# EAGLE library part MCP6402 (library hsk_2012)
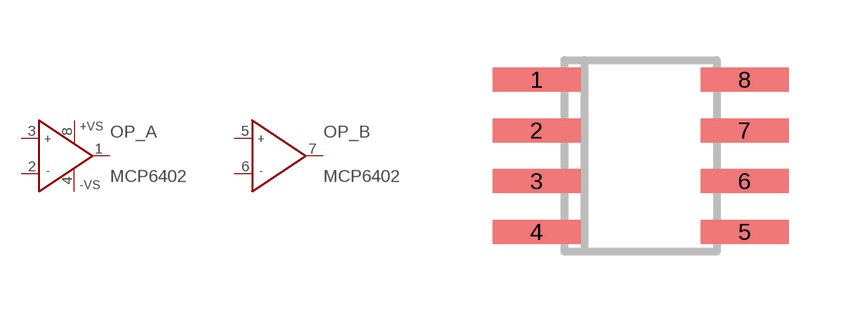
[diagram p5: symbol with the pads of SO8; footprint SO8]

Designator prefix OP; gates _A=OP+-VS _B=OP+-

## MCP6402  [SO8]
1  _A:OUT  out
2  _A:IN-  in
3  _A:IN+  in
4  _A:-VS  in
5  _B:IN+  in
6  _B:IN-  in
7  _B:OUT  out
8  _A:+VS  in

## Footprint SO8 (pad centres in mm)
SMALL OUTLINE INTEGRATED CIRCUIT
smd 2.2 x 0.6: 1 -2.6,1.905; 2 -2.6,0.635; 3 -2.6,-0.635; 4 -2.6,-1.905; 5 2.6,-1.905; 6 2.6,-0.635; 7 2.6,0.635; 8 2.6,1.905